# Altium footprint library Misc.TH.PcbLib: 66 footprints (part 3 of 5)
Each footprint in its own frame and in the unit in brackets; x right, y up, seen from the top. Pads: shape width x height; smd on the part's side, far side on the other; paste and mask are expansions set on the pad; w line width, h text height; cw(c..) or ccw(c..) is an arc to the next point about the centre after c.
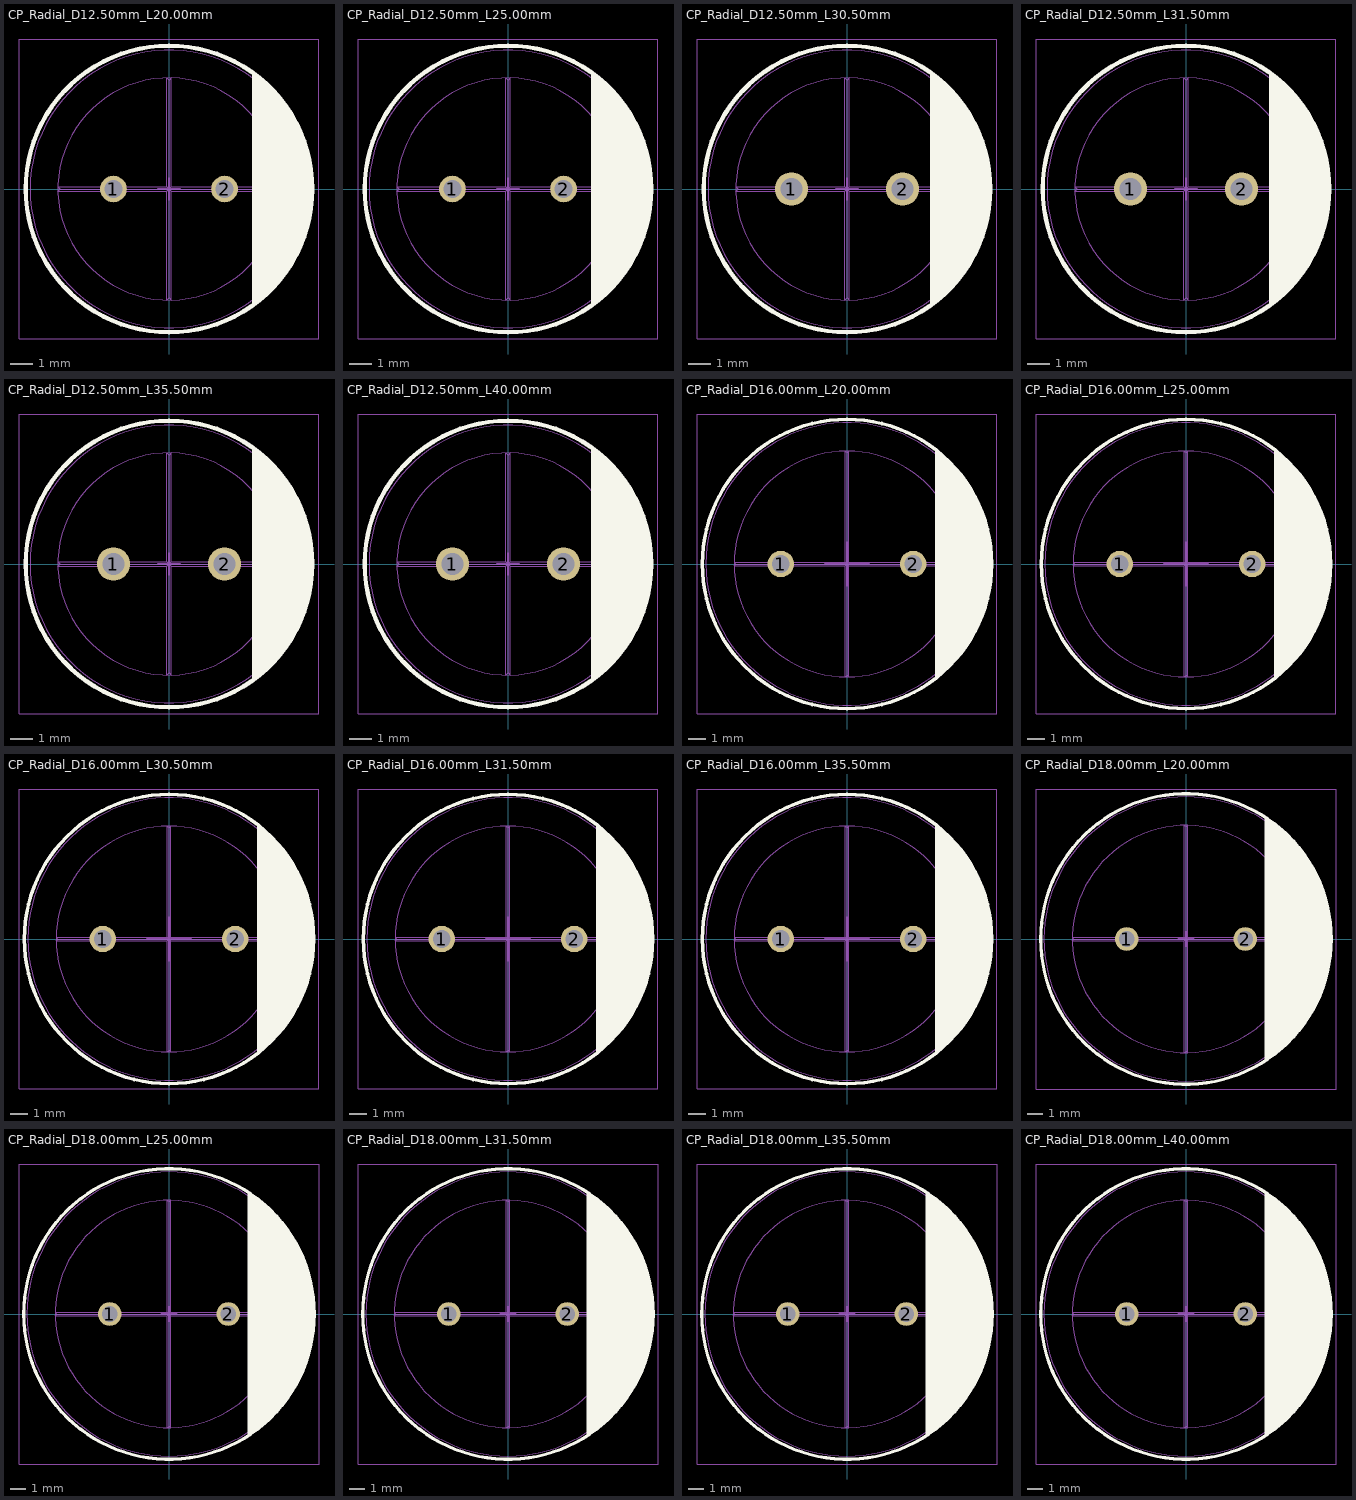
[diagram p2: the footprints below, top view; thin cyan lines are the x and y axes]

## CP_Radial_D12.50mm_L20.00mm [mm] "Radial Capacitor, Diameter 12.50mm, Length 20.00mm, Pitch 5.00mm"
height 20
pads (2):
  round 1.2 hole 0.8: 1(-2.5,0) 2(2.5,0)
Top Overlay:
  circle w0.2: c0,0 r6.45
  region: 3.75,5.25 4.062,5.027 4.629,4.51 5.131,3.929 5.56,3.293 5.911,2.611 6.179,1.891 6.359,1.146 6.45,0.384 6.45,-0.384 6.359,-1.146 6.179,-1.891 5.911,-2.611 5.56,-3.293 5.131,-3.929 4.629,-4.51 4.062,-5.027 3.75,-5.25
Mechanical 1:
  circle w0.05: c0,0 r6.25
  circle w0.05: c0,0 r5
  lines w0.05: 3.903,-3.125 5.049,-3.125 5.413,-3.125 ; 3.903,3.125 5.049,3.125 5.413,3.125 ; -4.9,0 4.9,0 ; -4.9,0 -4.999,0.1 -0.1,0.1 ; -4.9,0 -4.999,-0.1 -0.1,-0.1 ; -0.1,-0.1 0.1,0.1 ; -0.1,-0.1 -0.1,-4.999 0,-4.9 ; -0.1,0.1 -0.1,4.999 0,4.9 ; -0.1,0.1 0.1,-0.1 ; 0,-4.9 0,4.9 ; 0,-4.9 0.1,-4.999 0.1,-0.1 ; 0,4.9 0.1,4.999 0.1,0.1 ; 0.1,-0.1 4.999,-0.1 4.9,0 ; 0.1,0.1 4.999,0.1 4.9,0
Mechanical 15:
  lines w0.05: -6.75,-6.75 6.75,-6.75 6.75,6.75 -6.75,6.75 -6.75,-6.75
  lines w0.1: -0.5,0 0.5,0 ; 0,-0.5 0,0.5
3D body "Capacitor_Radial_D12.50mm_L20.00mm_P5.0mm.STEP": height 20, standoff -3.2, extent -6.238,-6.25 6.25,6.25

## CP_Radial_D12.50mm_L25.00mm [mm] "Radial Capacitor, Diameter 12.50mm, Length 25.00mm, Pitch 5.00mm"
height 25
pads (2):
  round 1.2 hole 0.8: 1(-2.5,0) 2(2.5,0)
Top Overlay:
  circle w0.2: c0,0 r6.45
  region: 3.75,5.25 4.062,5.027 4.629,4.51 5.131,3.929 5.56,3.293 5.911,2.611 6.179,1.891 6.359,1.146 6.45,0.384 6.45,-0.384 6.359,-1.146 6.179,-1.891 5.911,-2.611 5.56,-3.293 5.131,-3.929 4.629,-4.51 4.062,-5.027 3.75,-5.25
Mechanical 1:
  circle w0.05: c0,0 r6.25
  circle w0.05: c0,0 r5
  lines w0.05: 3.903,-3.125 5.049,-3.125 5.413,-3.125 ; 3.903,3.125 5.049,3.125 5.413,3.125 ; -4.9,0 4.9,0 ; -4.9,0 -4.999,0.1 -0.1,0.1 ; -4.9,0 -4.999,-0.1 -0.1,-0.1 ; -0.1,-0.1 0.1,0.1 ; -0.1,-0.1 -0.1,-4.999 0,-4.9 ; -0.1,0.1 -0.1,4.999 0,4.9 ; -0.1,0.1 0.1,-0.1 ; 0,-4.9 0,4.9 ; 0,-4.9 0.1,-4.999 0.1,-0.1 ; 0,4.9 0.1,4.999 0.1,0.1 ; 0.1,-0.1 4.999,-0.1 4.9,0 ; 0.1,0.1 4.999,0.1 4.9,0
Mechanical 15:
  lines w0.05: -6.75,-6.75 6.75,-6.75 6.75,6.75 -6.75,6.75 -6.75,-6.75
  lines w0.1: -0.5,0 0.5,0 ; 0,-0.5 0,0.5
3D body "Capacitor_Radial_D12.50mm_L25.00mm_P5.0mm.STEP": height 25, standoff -3.2, extent -6.25,-6.25 6.25,6.25

## CP_Radial_D12.50mm_L30.50mm [mm] "Radial Capacitor, Diameter 12.50mm, Length 30.50mm, Pitch 5.00mm"
height 30.5
pads (2):
  round 1.5 hole 1: 1(-2.5,0) 2(2.5,0)
Top Overlay:
  circle w0.2: c0,0 r6.45
  region: 3.75,5.25 4.062,5.027 4.629,4.51 5.131,3.929 5.56,3.293 5.911,2.611 6.179,1.891 6.359,1.146 6.45,0.384 6.45,-0.384 6.359,-1.146 6.179,-1.891 5.911,-2.611 5.56,-3.293 5.131,-3.929 4.629,-4.51 4.062,-5.027 3.75,-5.25
Mechanical 1:
  circle w0.05: c0,0 r5
  circle w0.05: c0,0 r6.25
  lines w0.05: 3.903,-3.125 5.049,-3.125 5.413,-3.125 ; 3.903,3.125 5.049,3.125 5.413,3.125 ; -4.9,0 -4.999,-0.1 -0.1,-0.1 ; -4.9,0 -4.999,0.1 -0.1,0.1 ; -4.9,0 4.9,0 ; -0.1,-0.1 -0.1,-4.999 0,-4.9 ; -0.1,-0.1 0.1,0.1 ; -0.1,0.1 0.1,-0.1 ; -0.1,0.1 -0.1,4.999 0,4.9 ; 0,-4.9 0.1,-4.999 0.1,-0.1 ; 0,-4.9 0,4.9 ; 0,4.9 0.1,4.999 0.1,0.1 ; 0.1,-0.1 4.999,-0.1 4.9,0 ; 0.1,0.1 4.999,0.1 4.9,0
Mechanical 15:
  lines w0.05: -6.75,-6.75 -6.75,6.75 6.75,6.75 6.75,-6.75 -6.75,-6.75
  lines w0.1: -0.5,0 0.5,0 ; 0,-0.5 0,0.5
3D body "Capacitor_Radial_D12.50mm_L30.50mm_P5.0mm.STEP": height 30.5, standoff -3.2, extent -6.25,-6.25 6.25,6.25

## CP_Radial_D12.50mm_L31.50mm [mm] "Radial Capacitor, Diameter 12.50mm, Length 31.50mm, Pitch 5.00mm"
height 31.5
pads (2):
  round 1.5 hole 1: 1(-2.5,0) 2(2.5,0)
Top Overlay:
  circle w0.2: c0,0 r6.45
  region: 3.75,5.25 4.062,5.027 4.629,4.51 5.131,3.929 5.56,3.293 5.911,2.611 6.179,1.891 6.359,1.146 6.45,0.384 6.45,-0.384 6.359,-1.146 6.179,-1.891 5.911,-2.611 5.56,-3.293 5.131,-3.929 4.629,-4.51 4.062,-5.027 3.75,-5.25
Mechanical 1:
  circle w0.05: c0,0 r6.25
  circle w0.05: c0,0 r5
  lines w0.05: 3.903,-3.125 5.049,-3.125 5.413,-3.125 ; 3.903,3.125 5.049,3.125 5.413,3.125 ; -4.9,0 4.9,0 ; -4.9,0 -4.999,0.1 -0.1,0.1 ; -4.9,0 -4.999,-0.1 -0.1,-0.1 ; -0.1,-0.1 0.1,0.1 ; -0.1,-0.1 -0.1,-4.999 0,-4.9 ; -0.1,0.1 -0.1,4.999 0,4.9 ; -0.1,0.1 0.1,-0.1 ; 0,-4.9 0,4.9 ; 0,-4.9 0.1,-4.999 0.1,-0.1 ; 0,4.9 0.1,4.999 0.1,0.1 ; 0.1,-0.1 4.999,-0.1 4.9,0 ; 0.1,0.1 4.999,0.1 4.9,0
Mechanical 15:
  lines w0.05: -6.75,-6.75 6.75,-6.75 6.75,6.75 -6.75,6.75 -6.75,-6.75
  lines w0.1: -0.5,0 0.5,0 ; 0,-0.5 0,0.5
3D body "Capacitor_Radial_D12.50mm_L31.50mm_P5.0mm.STEP": height 31.5, standoff -3.2, extent -6.25,-6.25 6.25,6.25

## CP_Radial_D12.50mm_L35.50mm [mm] "Radial Capacitor, Diameter 12.50mm, Length 35.50mm, Pitch 5.00mm"
height 35.5
pads (2):
  round 1.5 hole 1: 1(-2.5,0) 2(2.5,0)
Top Overlay:
  circle w0.2: c0,0 r6.45
  region: 3.75,5.25 4.062,5.027 4.629,4.51 5.131,3.929 5.56,3.293 5.911,2.611 6.179,1.891 6.359,1.146 6.45,0.384 6.45,-0.384 6.359,-1.146 6.179,-1.891 5.911,-2.611 5.56,-3.293 5.131,-3.929 4.629,-4.51 4.062,-5.027 3.75,-5.25
Mechanical 1:
  circle w0.05: c0,0 r6.25
  circle w0.05: c0,0 r5
  lines w0.05: 3.903,-3.125 5.049,-3.125 5.413,-3.125 ; 3.903,3.125 5.049,3.125 5.413,3.125 ; -4.9,0 4.9,0 ; -4.9,0 -4.999,0.1 -0.1,0.1 ; -4.9,0 -4.999,-0.1 -0.1,-0.1 ; -0.1,-0.1 0.1,0.1 ; -0.1,-0.1 -0.1,-4.999 0,-4.9 ; -0.1,0.1 -0.1,4.999 0,4.9 ; -0.1,0.1 0.1,-0.1 ; 0,-4.9 0,4.9 ; 0,-4.9 0.1,-4.999 0.1,-0.1 ; 0,4.9 0.1,4.999 0.1,0.1 ; 0.1,-0.1 4.999,-0.1 4.9,0 ; 0.1,0.1 4.999,0.1 4.9,0
Mechanical 15:
  lines w0.05: -6.75,-6.75 6.75,-6.75 6.75,6.75 -6.75,6.75 -6.75,-6.75
  lines w0.1: -0.5,0 0.5,0 ; 0,-0.5 0,0.5
3D body "Capacitor_Radial_D12.50mm_L35.50mm_P5.0mm.STEP": height 35.5, standoff -3.2, extent -6.25,-6.25 6.25,6.25

## CP_Radial_D12.50mm_L40.00mm [mm] "Radial Capacitor, Diameter 12.50mm, Length 40.00mm, Pitch 5.00mm"
height 40
pads (2):
  round 1.5 hole 1: 1(-2.5,0) 2(2.5,0)
Top Overlay:
  circle w0.2: c0,0 r6.45
  region: 3.75,5.25 4.062,5.027 4.629,4.51 5.131,3.929 5.56,3.293 5.911,2.611 6.179,1.891 6.359,1.146 6.45,0.384 6.45,-0.384 6.359,-1.146 6.179,-1.891 5.911,-2.611 5.56,-3.293 5.131,-3.929 4.629,-4.51 4.062,-5.027 3.75,-5.25
Mechanical 1:
  circle w0.05: c0,0 r6.25
  circle w0.05: c0,0 r5
  lines w0.05: 3.903,-3.125 5.049,-3.125 5.413,-3.125 ; 3.903,3.125 5.049,3.125 5.413,3.125 ; -4.9,0 4.9,0 ; -4.9,0 -4.999,0.1 -0.1,0.1 ; -4.9,0 -4.999,-0.1 -0.1,-0.1 ; -0.1,-0.1 0.1,0.1 ; -0.1,-0.1 -0.1,-4.999 0,-4.9 ; -0.1,0.1 -0.1,4.999 0,4.9 ; -0.1,0.1 0.1,-0.1 ; 0,-4.9 0,4.9 ; 0,-4.9 0.1,-4.999 0.1,-0.1 ; 0,4.9 0.1,4.999 0.1,0.1 ; 0.1,-0.1 4.999,-0.1 4.9,0 ; 0.1,0.1 4.999,0.1 4.9,0
Mechanical 15:
  lines w0.05: -6.75,-6.75 6.75,-6.75 6.75,6.75 -6.75,6.75 -6.75,-6.75
  lines w0.1: -0.5,0 0.5,0 ; 0,-0.5 0,0.5
3D body "Capacitor_Radial_D12.50mm_L40.00mm_P5.0mm.STEP": height 40, standoff -3.2, extent -6.229,-6.25 6.25,6.25

## CP_Radial_D16.00mm_L20.00mm [mm] "Radial Capacitor, Diameter 16.00mm, Length 20.00mm, Pitch 7.50mm"
height 20
pads (2):
  round 1.5 hole 1: 1(-3.75,0) 2(3.75,0)
Top Overlay:
  circle w0.2: c0,0 r8.2
  region: 5,6.5 5,-6.5 5.298,-6.271 5.848,-5.761 6.35,-5.202 6.799,-4.6 7.191,-3.959 7.522,-3.286 7.791,-2.584 7.995,-1.862 8.131,-1.123 8.2,-0.375 8.2,0.375 8.131,1.123 7.995,1.862 7.791,2.584 7.522,3.286 7.191,3.959 6.799,4.6 6.35,5.202 5.848,5.761 5.298,6.271
Mechanical 1:
  circle w0.05: c0,0 r8
  circle w0.05: c0,0 r6.4
  lines w0.05: 4.996,-4 6.462,-4 6.928,-4 ; 4.996,4 6.462,4 6.928,4 ; -6.3,0 6.3,0 ; -6.3,0 -6.399,0.1 -0.1,0.1 ; -6.3,0 -6.399,-0.1 -0.1,-0.1 ; -0.1,-0.1 0.1,0.1 ; -0.1,-0.1 -0.1,-6.399 0,-6.3 ; -0.1,0.1 -0.1,6.399 0,6.3 ; -0.1,0.1 0.1,-0.1 ; 0,-6.3 0,6.3 ; 0,-6.3 0.1,-6.399 0.1,-0.1 ; 0,6.3 0.1,6.399 0.1,0.1 ; 0.1,-0.1 6.399,-0.1 6.3,0 ; 0.1,0.1 6.399,0.1 6.3,0
Mechanical 15:
  lines w0.05: -8.5,-8.5 -8.5,8.5 8.5,8.5 8.5,-8.5 -8.5,-8.5
  lines w0.1: -1.25,0 1.25,0 ; 0,-1.25 0,1.25
3D body "Capacitor_Radial_D16.00mm_L20.00mm_P7.50mm.STEP": height 20, standoff -3.2, extent -7.99,-8 8,8

## CP_Radial_D16.00mm_L25.00mm [mm] "Radial Capacitor, Diameter 16.00mm, Length 25.00mm, Pitch 7.50mm"
height 25
pads (2):
  round 1.5 hole 1: 1(-3.75,0) 2(3.75,0)
Top Overlay:
  circle w0.2: c0,0 r8.2
  region: 5,6.5 5,-6.5 5.298,-6.271 5.848,-5.761 6.35,-5.202 6.799,-4.6 7.191,-3.959 7.522,-3.286 7.791,-2.584 7.995,-1.862 8.131,-1.123 8.2,-0.375 8.2,0.375 8.131,1.123 7.995,1.862 7.791,2.584 7.522,3.286 7.191,3.959 6.799,4.6 6.35,5.202 5.848,5.761 5.298,6.271
Mechanical 1:
  circle w0.05: c0,0 r6.4
  circle w0.05: c0,0 r8
  lines w0.05: 4.996,-4 6.462,-4 6.928,-4 ; 4.996,4 6.462,4 6.928,4 ; -6.3,0 -6.399,-0.1 -0.1,-0.1 ; -6.3,0 -6.399,0.1 -0.1,0.1 ; -6.3,0 6.3,0 ; -0.1,-0.1 -0.1,-6.399 0,-6.3 ; -0.1,-0.1 0.1,0.1 ; -0.1,0.1 0.1,-0.1 ; -0.1,0.1 -0.1,6.399 0,6.3 ; 0,-6.3 0.1,-6.399 0.1,-0.1 ; 0,-6.3 0,6.3 ; 0,6.3 0.1,6.399 0.1,0.1 ; 0.1,-0.1 6.399,-0.1 6.3,0 ; 0.1,0.1 6.399,0.1 6.3,0
Mechanical 15:
  lines w0.05: -8.5,-8.5 8.5,-8.5 8.5,8.5 -8.5,8.5 -8.5,-8.5
  lines w0.1: -1.25,0 1.25,0 ; 0,-1.25 0,1.25
3D body "Capacitor_Radial_D16.00mm_L25.00mm_P7.50mm.STEP": height 25, standoff -3.2, extent -7.99,-8 8,8

## CP_Radial_D16.00mm_L30.50mm [mm] "Radial Capacitor, Diameter 16.00mm, Length 30.50mm, Pitch 7.50mm"
height 30.5
pads (2):
  round 1.5 hole 1: 1(-3.75,0) 2(3.75,0)
Top Overlay:
  circle w0.2: c0,0 r8.2
  region: 5,6.5 5,-6.5 5.298,-6.271 5.848,-5.761 6.35,-5.202 6.799,-4.6 7.191,-3.959 7.522,-3.286 7.791,-2.584 7.995,-1.862 8.131,-1.123 8.2,-0.375 8.2,0.375 8.131,1.123 7.995,1.862 7.791,2.584 7.522,3.286 7.191,3.959 6.799,4.6 6.35,5.202 5.848,5.761 5.298,6.271
Mechanical 1:
  circle w0.05: c0,0 r6.4
  circle w0.05: c0,0 r8
  lines w0.05: 4.996,-4 6.462,-4 6.928,-4 ; 4.996,4 6.462,4 6.928,4 ; -6.3,0 -6.399,-0.1 -0.1,-0.1 ; -6.3,0 -6.399,0.1 -0.1,0.1 ; -6.3,0 6.3,0 ; -0.1,-0.1 -0.1,-6.399 0,-6.3 ; -0.1,-0.1 0.1,0.1 ; -0.1,0.1 0.1,-0.1 ; -0.1,0.1 -0.1,6.399 0,6.3 ; 0,-6.3 0.1,-6.399 0.1,-0.1 ; 0,-6.3 0,6.3 ; 0,6.3 0.1,6.399 0.1,0.1 ; 0.1,-0.1 6.399,-0.1 6.3,0 ; 0.1,0.1 6.399,0.1 6.3,0
Mechanical 15:
  lines w0.05: -8.5,-8.5 8.5,-8.5 8.5,8.5 -8.5,8.5 -8.5,-8.5
  lines w0.1: -1.25,0 1.25,0 ; 0,-1.25 0,1.25
3D body "Capacitor_Radial_D16.00mm_L30.50mm_P7.50mm.STEP": height 30.5, standoff -3.2, extent -7.99,-8 8,8

## CP_Radial_D16.00mm_L31.50mm [mm] "Radial Capacitor, Diameter 16.00mm, Length 31.50mm, Pitch 7.50mm"
height 31.5
pads (2):
  round 1.5 hole 1: 1(-3.75,0) 2(3.75,0)
Top Overlay:
  circle w0.2: c0,0 r8.2
  region: 5,6.5 5,-6.5 5.298,-6.271 5.848,-5.761 6.35,-5.202 6.799,-4.6 7.191,-3.959 7.522,-3.286 7.791,-2.584 7.995,-1.862 8.131,-1.123 8.2,-0.375 8.2,0.375 8.131,1.123 7.995,1.862 7.791,2.584 7.522,3.286 7.191,3.959 6.799,4.6 6.35,5.202 5.848,5.761 5.298,6.271
Mechanical 1:
  circle w0.05: c0,0 r8
  circle w0.05: c0,0 r6.4
  lines w0.05: 4.996,-4 6.462,-4 6.928,-4 ; 4.996,4 6.462,4 6.928,4 ; -6.3,0 6.3,0 ; -6.3,0 -6.399,0.1 -0.1,0.1 ; -6.3,0 -6.399,-0.1 -0.1,-0.1 ; -0.1,-0.1 0.1,0.1 ; -0.1,-0.1 -0.1,-6.399 0,-6.3 ; -0.1,0.1 -0.1,6.399 0,6.3 ; -0.1,0.1 0.1,-0.1 ; 0,-6.3 0,6.3 ; 0,-6.3 0.1,-6.399 0.1,-0.1 ; 0,6.3 0.1,6.399 0.1,0.1 ; 0.1,-0.1 6.399,-0.1 6.3,0 ; 0.1,0.1 6.399,0.1 6.3,0
Mechanical 15:
  lines w0.05: -8.5,-8.5 -8.5,8.5 8.5,8.5 8.5,-8.5 -8.5,-8.5
  lines w0.1: -1.25,0 1.25,0 ; 0,-1.25 0,1.25
3D body "Capacitor_Radial_D16.00mm_L31.50mm_P7.50mm.STEP": height 31.5, standoff -3.2, extent -8,-8 8,8

## CP_Radial_D16.00mm_L35.50mm [mm] "Radial Capacitor, Diameter 16.00mm, Length 35.50mm, Pitch 7.50mm"
height 35.5
pads (2):
  round 1.5 hole 1: 1(-3.75,0) 2(3.75,0)
Top Overlay:
  circle w0.2: c0,0 r8.2
  region: 5,6.5 5,-6.5 5.298,-6.271 5.848,-5.761 6.35,-5.202 6.799,-4.6 7.191,-3.959 7.522,-3.286 7.791,-2.584 7.995,-1.862 8.131,-1.123 8.2,-0.375 8.2,0.375 8.131,1.123 7.995,1.862 7.791,2.584 7.522,3.286 7.191,3.959 6.799,4.6 6.35,5.202 5.848,5.761 5.298,6.271
Mechanical 1:
  circle w0.05: c0,0 r6.4
  circle w0.05: c0,0 r8
  lines w0.05: 4.996,-4 6.462,-4 6.928,-4 ; 4.996,4 6.462,4 6.928,4 ; -6.3,0 -6.399,-0.1 -0.1,-0.1 ; -6.3,0 -6.399,0.1 -0.1,0.1 ; -6.3,0 6.3,0 ; -0.1,-0.1 -0.1,-6.399 0,-6.3 ; -0.1,-0.1 0.1,0.1 ; -0.1,0.1 0.1,-0.1 ; -0.1,0.1 -0.1,6.399 0,6.3 ; 0,-6.3 0.1,-6.399 0.1,-0.1 ; 0,-6.3 0,6.3 ; 0,6.3 0.1,6.399 0.1,0.1 ; 0.1,-0.1 6.399,-0.1 6.3,0 ; 0.1,0.1 6.399,0.1 6.3,0
Mechanical 15:
  lines w0.05: -8.5,-8.5 8.5,-8.5 8.5,8.5 -8.5,8.5 -8.5,-8.5
  lines w0.1: -1.25,0 1.25,0 ; 0,-1.25 0,1.25
3D body "Capacitor_Radial_D16.00mm_L35.50mm_P7.50mm.STEP": height 35.5, standoff -3.2, extent -7.981,-8 8,8

## CP_Radial_D18.00mm_L20.00mm [mm] "Radial Capacitor, Diameter 18.00mm, Length 20.00mm, Pitch 7.50mm"
height 20
pads (2):
  round 1.5 hole 1: 1(-3.75,0) 2(3.75,0)
Top Overlay:
  circle w0.2: c0,0 r9.2
  region: 5,7.7 5,-7.7 5.385,-7.452 6.101,-6.882 6.757,-6.244 7.346,-5.543 7.863,-4.787 8.301,-3.984 8.657,-3.14 8.927,-2.266 9.109,-1.369 9.2,-0.458 9.2,0.458 9.109,1.369 8.927,2.266 8.657,3.14 8.301,3.984 7.863,4.787 7.346,5.543 6.757,6.244 6.101,6.882 5.385,7.452
Mechanical 1:
  circle w0.05: c0,0 r7.2
  circle w0.05: c0,0 r9
  lines w0.05: 5.62,-4.5 7.27,-4.5 7.794,-4.5 ; 5.62,4.5 7.27,4.5 7.794,4.5 ; -7.1,0 -7.199,-0.1 -0.1,-0.1 ; -7.1,0 -7.199,0.1 -0.1,0.1 ; -7.1,0 7.1,0 ; -0.1,-0.1 -0.1,-7.199 0,-7.1 ; -0.1,-0.1 0.1,0.1 ; -0.1,0.1 0.1,-0.1 ; -0.1,0.1 -0.1,7.199 0,7.1 ; 0,-7.1 0.1,-7.199 0.1,-0.1 ; 0,-7.1 0,7.1 ; 0,7.1 0.1,7.199 0.1,0.1 ; 0.1,-0.1 7.199,-0.1 7.1,0 ; 0.1,0.1 7.199,0.1 7.1,0
Mechanical 15:
  lines w0.05: -9.5,-9.5 9.5,-9.5 9.5,9.5 -9.5,9.5 -9.5,-9.5
  lines w0.1: -0.5,0 0.5,0 ; 0,-0.5 0,0.5
3D body "Capacitor_Radial_D18.00mm_L20.00mm_P7.50mm.STEP": height 20, standoff -3.2, extent -9,-9 9,9

## CP_Radial_D18.00mm_L25.00mm [mm] "Radial Capacitor, Diameter 18.00mm, Length 25.00mm, Pitch 7.50mm"
height 25
pads (2):
  round 1.5 hole 1: 1(-3.75,0) 2(3.75,0)
Top Overlay:
  circle w0.2: c0,0 r9.2
  region: 5,7.7 5,-7.7 5.385,-7.452 6.101,-6.882 6.757,-6.244 7.346,-5.543 7.863,-4.787 8.301,-3.984 8.657,-3.14 8.927,-2.266 9.109,-1.369 9.2,-0.458 9.2,0.458 9.109,1.369 8.927,2.266 8.657,3.14 8.301,3.984 7.863,4.787 7.346,5.543 6.757,6.244 6.101,6.882 5.385,7.452
Mechanical 1:
  circle w0.05: c0,0 r9
  circle w0.05: c0,0 r7.2
  lines w0.05: 5.62,-4.5 7.27,-4.5 7.794,-4.5 ; 5.62,4.5 7.27,4.5 7.794,4.5 ; -7.1,0 7.1,0 ; -7.1,0 -7.199,0.1 -0.1,0.1 ; -7.1,0 -7.199,-0.1 -0.1,-0.1 ; -0.1,-0.1 0.1,0.1 ; -0.1,-0.1 -0.1,-7.199 0,-7.1 ; -0.1,0.1 -0.1,7.199 0,7.1 ; -0.1,0.1 0.1,-0.1 ; 0,-7.1 0,7.1 ; 0,-7.1 0.1,-7.199 0.1,-0.1 ; 0,7.1 0.1,7.199 0.1,0.1 ; 0.1,-0.1 7.199,-0.1 7.1,0 ; 0.1,0.1 7.199,0.1 7.1,0
Mechanical 15:
  lines w0.05: -9.5,-9.5 -9.5,9.5 9.5,9.5 9.5,-9.5 -9.5,-9.5
  lines w0.1: -0.5,0 0.5,0 ; 0,-0.5 0,0.5
3D body "Capacitor_Radial_D18.00mm_L25.00mm_P7.50mm.STEP": height 25, standoff -3.2, extent -8.995,-9 9,9

## CP_Radial_D18.00mm_L31.50mm [mm] "Radial Capacitor, Diameter 18.00mm, Length 31.50mm, Pitch 7.50mm"
height 31.5
pads (2):
  round 1.5 hole 1: 1(-3.75,0) 2(3.75,0)
Top Overlay:
  circle w0.2: c0,0 r9.2
  region: 5,7.7 5,-7.7 5.385,-7.452 6.101,-6.882 6.757,-6.244 7.346,-5.543 7.863,-4.787 8.301,-3.984 8.657,-3.14 8.927,-2.266 9.109,-1.369 9.2,-0.458 9.2,0.458 9.109,1.369 8.927,2.266 8.657,3.14 8.301,3.984 7.863,4.787 7.346,5.543 6.757,6.244 6.101,6.882 5.385,7.452
Mechanical 1:
  circle w0.05: c0,0 r9
  circle w0.05: c0,0 r7.2
  lines w0.05: 5.62,-4.5 7.27,-4.5 7.794,-4.5 ; 5.62,4.5 7.27,4.5 7.794,4.5 ; -7.1,0 7.1,0 ; -7.1,0 -7.199,0.1 -0.1,0.1 ; -7.1,0 -7.199,-0.1 -0.1,-0.1 ; -0.1,-0.1 0.1,0.1 ; -0.1,-0.1 -0.1,-7.199 0,-7.1 ; -0.1,0.1 -0.1,7.199 0,7.1 ; -0.1,0.1 0.1,-0.1 ; 0,-7.1 0,7.1 ; 0,-7.1 0.1,-7.199 0.1,-0.1 ; 0,7.1 0.1,7.199 0.1,0.1 ; 0.1,-0.1 7.199,-0.1 7.1,0 ; 0.1,0.1 7.199,0.1 7.1,0
Mechanical 15:
  lines w0.05: -9.5,-9.5 -9.5,9.5 9.5,9.5 9.5,-9.5 -9.5,-9.5
  lines w0.1: -0.5,0 0.5,0 ; 0,-0.5 0,0.5
3D body "Capacitor_Radial_D18.00mm_L31.50mm_P7.50mm.STEP": height 31.5, standoff -3.2, extent -9,-9 9,9

## CP_Radial_D18.00mm_L35.50mm [mm] "Radial Capacitor, Diameter 18.00mm, Length 35.50mm, Pitch 7.50mm"
height 35.5
pads (2):
  round 1.5 hole 1: 1(-3.75,0) 2(3.75,0)
Top Overlay:
  circle w0.2: c0,0 r9.2
  region: 5,7.7 5,-7.7 5.385,-7.452 6.101,-6.882 6.757,-6.244 7.346,-5.543 7.863,-4.787 8.301,-3.984 8.657,-3.14 8.927,-2.266 9.109,-1.369 9.2,-0.458 9.2,0.458 9.109,1.369 8.927,2.266 8.657,3.14 8.301,3.984 7.863,4.787 7.346,5.543 6.757,6.244 6.101,6.882 5.385,7.452
Mechanical 1:
  circle w0.05: c0,0 r9
  circle w0.05: c0,0 r7.2
  lines w0.05: 5.62,-4.5 7.27,-4.5 7.794,-4.5 ; 5.62,4.5 7.27,4.5 7.794,4.5 ; -7.1,0 7.1,0 ; -7.1,0 -7.199,0.1 -0.1,0.1 ; -7.1,0 -7.199,-0.1 -0.1,-0.1 ; -0.1,-0.1 0.1,0.1 ; -0.1,-0.1 -0.1,-7.199 0,-7.1 ; -0.1,0.1 -0.1,7.199 0,7.1 ; -0.1,0.1 0.1,-0.1 ; 0,-7.1 0,7.1 ; 0,-7.1 0.1,-7.199 0.1,-0.1 ; 0,7.1 0.1,7.199 0.1,0.1 ; 0.1,-0.1 7.199,-0.1 7.1,0 ; 0.1,0.1 7.199,0.1 7.1,0
Mechanical 15:
  lines w0.05: -9.5,-9.5 -9.5,9.5 9.5,9.5 9.5,-9.5 -9.5,-9.5
  lines w0.1: -0.5,0 0.5,0 ; 0,-0.5 0,0.5
3D body "Capacitor_Radial_D18.00mm_L35.50mm_P7.50mm.STEP": height 35.5, standoff -3.2, extent -9,-9 9,9

## CP_Radial_D18.00mm_L40.00mm [mm] "Radial Capacitor, Diameter 18.00mm, Length 40.00mm, Pitch 7.50mm"
height 40
pads (2):
  round 1.5 hole 1: 1(-3.75,0) 2(3.75,0)
Top Overlay:
  circle w0.2: c0,0 r9.2
  region: 5,7.7 5,-7.7 5.385,-7.452 6.101,-6.882 6.757,-6.244 7.346,-5.543 7.863,-4.787 8.301,-3.984 8.657,-3.14 8.927,-2.266 9.109,-1.369 9.2,-0.458 9.2,0.458 9.109,1.369 8.927,2.266 8.657,3.14 8.301,3.984 7.863,4.787 7.346,5.543 6.757,6.244 6.101,6.882 5.385,7.452
Mechanical 1:
  circle w0.05: c0,0 r7.2
  circle w0.05: c0,0 r9
  lines w0.05: 5.62,-4.5 7.27,-4.5 7.794,-4.5 ; 5.62,4.5 7.27,4.5 7.794,4.5 ; -7.1,0 -7.199,-0.1 -0.1,-0.1 ; -7.1,0 -7.199,0.1 -0.1,0.1 ; -7.1,0 7.1,0 ; -0.1,-0.1 -0.1,-7.199 0,-7.1 ; -0.1,-0.1 0.1,0.1 ; -0.1,0.1 0.1,-0.1 ; -0.1,0.1 -0.1,7.199 0,7.1 ; 0,-7.1 0.1,-7.199 0.1,-0.1 ; 0,-7.1 0,7.1 ; 0,7.1 0.1,7.199 0.1,0.1 ; 0.1,-0.1 7.199,-0.1 7.1,0 ; 0.1,0.1 7.199,0.1 7.1,0
Mechanical 15:
  lines w0.05: -9.5,-9.5 9.5,-9.5 9.5,9.5 -9.5,9.5 -9.5,-9.5
  lines w0.1: -0.5,0 0.5,0 ; 0,-0.5 0,0.5
3D body "Capacitor_Radial_D18.00mm_L40.00mm_P7.50mm.STEP": height 40, standoff -3.2, extent -8.979,-9 9,9